# Altium footprint library APSS Prototype Parts.PcbLib: 96 footprints (part 5 of 6)
Each footprint in its own frame and in the unit in brackets; x right, y up, seen from the top. Pads: shape width x height; smd on the part's side, far side on the other; paste and mask are expansions set on the pad; w line width, h text height; cw(c..) or ccw(c..) is an arc to the next point about the centre after c.
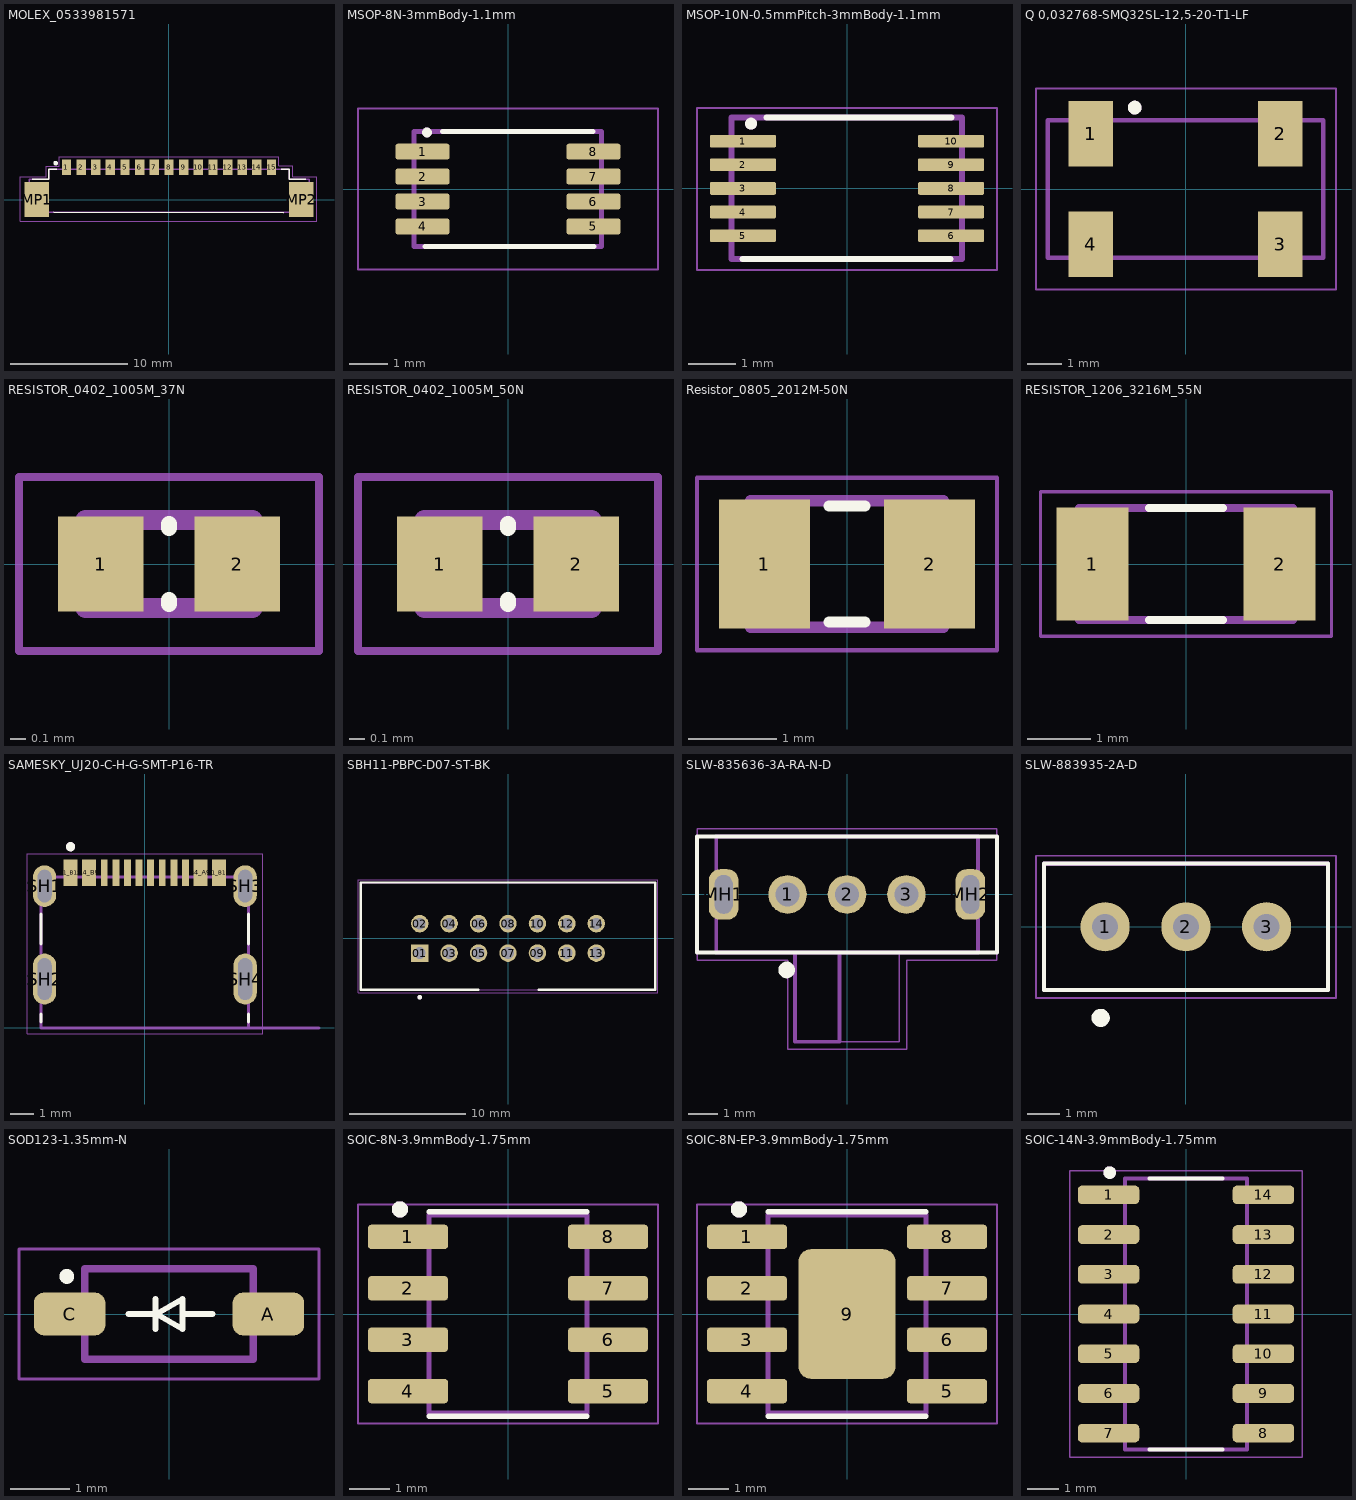
[diagram p4: the footprints below, top view; thin cyan lines are the x and y axes]

## MOLEX_0533981571 [mm] "Header - Picoblade 15-pin, SMT, STR, 4.7mm height"
height 4.7
pads (17):
  rect 0.8x1.3 smd mask+0.051: 1(-8.75,2.75) 2(-7.5,2.75) 3(-6.25,2.75) 4(-5,2.75) 5(-3.75,2.75) 6(-2.5,2.75) 7(-1.25,2.75) 8(0,2.75) 9(1.25,2.75) 10(2.5,2.75) 11(3.75,2.75) 12(5,2.75) 13(6.25,2.75) 14(7.5,2.75) 15(8.75,2.75)
  rect 2.1x3 smd mask+0.051: MP1(-11.3,0) MP2(11.3,0)
Top Overlay:
  circle w0.2: c-9.675,3.1 r0.1
  lines w0.127: -11.675,1.725 -10.25,1.725 -10.25,2.6 -9.575,2.6 ; -9.85,-1.1 9.8,-1.125 ; 9.575,2.6 10.25,2.6 10.25,1.725 11.675,1.725
Mechanical 13:
  lines w0.127: 9.615,2.6 10.25,2.6 ; 11.965,-1.075 11.965,1.725 10.25,1.725 10.25,2.6 ; 12.175,-1.075 -11.925,-1.075 -11.925,1.725 -10.25,1.725 -10.25,2.6 -9.475,2.6 10.25,2.6
Mechanical 15:
  lines w0.05: -12.675,-1.85 12.6,-1.85 12.6,1.95 10.55,1.95 10.55,2.9 9.375,2.9 9.375,3.65 -9.375,3.65 -9.375,2.85 -10.475,2.85 -10.475,1.95 -12.675,1.95 -12.675,-1.85
3D body "0533981571.stp": height 4.71, standoff 0.01, extent -11.95,-1.1 11.95,3.1

## MSOP-8N-3mmBody-1.1mm [mm] "MSOP, 8 pin, 0.65mm pitch, 3mm wide, nominal pads, 1.1mm high"
height 1.1
pads (8):
  rrect25% 1.4x0.41 smd mask+0.051: 1(-2.226,0.975) 2(-2.226,0.325) 3(-2.226,-0.325) 4(-2.226,-0.975) 5(2.225,-0.975) 6(2.225,-0.325) 7(2.225,0.325) 8(2.225,0.975)
Top Overlay:
  circle w0.2: c-2.108,1.473 r0.025
  lines w0.127: -2.165,-1.499 2.235,-1.499 ; -1.702,1.499 2.21,1.499
Mechanical 13:
  circle w0.2: c-2.108,1.473 r0.025
  lines w0.127: -2.45,-1.499 -2.45,1.5 2.438,1.5 2.438,-1.499 -2.45,-1.499
Mechanical 15:
  lines w0.05: -3.905,-2.098 -3.905,2.1 3.905,2.1 3.905,-2.098 -3.905,-2.098
3D body "NCS2333DMR2G.step": height 1.1, standoff 0, extent -2.45,-1.5 2.45,1.5

## MSOP-10N-0.5mmPitch-3mmBody-1.1mm [mm] "MSOP, 10 pin, 0.5mm pitch, 3mm wide, nominal pads, 1.1mm high"
height 1.1
pads (10):
  rrect25% 1.4x0.27 smd mask+0.051: 1(-2.204,1) 2(-2.204,0.5) 3(-2.204,0) 4(-2.204,-0.5) 5(-2.204,-1) 6(2.203,-1) 7(2.203,-0.5) 8(2.203,0) 9(2.203,0.5) 10(2.203,1)
Top Overlay:
  circle w0.2: c-2.032,1.372 r0.025
  lines w0.127: -2.21,-1.499 2.19,-1.499 ; -1.702,1.499 2.21,1.499
Mechanical 13:
  circle w0.2: c-2.032,1.372 r0.025
  lines w0.127: -2.45,-1.499 -2.45,1.5 2.438,1.5 2.438,-1.499 -2.45,-1.499
Mechanical 15:
  lines w0.05: -3.175,-1.727 -3.175,1.702 3.175,1.702 3.175,-1.727 -3.175,-1.727
3D body "MCP47CVB02-E_UN.stp": height 1.1, standoff 0, extent -2.45,-1.5 2.45,1.5

## Q 0,032768-SMQ32SL-12,5-20-T1-LF [mm]
height 2.4
pads (4):
  rect 1.3x1.9 smd: 1(-2.75,1.6) 2(2.75,1.6) 3(2.75,-1.6) 4(-2.75,-1.6)
Top Overlay:
  circle w0.2: c-1.473,2.362 r0.1
Mechanical 13:
  circle w0.2: c-1.473,2.362 r0.1
  lines w0.127: -4,-2 -4,2 4,2 4,-2 -4,-2
Mechanical 15:
  lines w0.05: -4.339,-2.917 -4.339,2.917 4.365,2.917 4.365,-2.917 -4.339,-2.917
3D body: height 2.4, standoff 0, extent -4,-2 4,2

## RESISTOR_0402_1005M_37N [mm] "Resistor, 0402 (1005 metric), 0.37mm height, nominal pads"
height 0.37
pads (2):
  rect 0.54x0.6 smd mask+0.051: 1(-0.432,0) 2(0.432,0)
Top Overlay:
  lines w0.1: 0,-0.254 0,-0.229 ; 0,0.229 0,0.254
Mechanical 13:
  lines w0.127: -0.53,-0.28 0.53,-0.28 0.53,0.28 -0.53,0.28 -0.53,-0.28
Mechanical 15:
  lines w0.05: -0.95,-0.55 0.95,-0.55 0.95,0.55 -0.95,0.55 -0.95,-0.55
3D body "RE0402BRE07560KL.step": height 0.37, standoff 0, extent -0.5,-0.25 0.5,0.25

## RESISTOR_0402_1005M_50N [mm] "Resistor, 0402 (1005 metric), 0.5mm height, nominal pads"
height 0.5
pads (2):
  rect 0.54x0.6 smd mask+0.051: 1(-0.432,0) 2(0.432,0)
Top Overlay:
  lines w0.1: 0,-0.254 0,-0.229 ; 0,0.229 0,0.254
Mechanical 13:
  lines w0.127: -0.53,-0.28 -0.53,0.28 0.53,0.28 0.53,-0.28 -0.53,-0.28
Mechanical 15:
  lines w0.05: -0.95,-0.55 -0.95,0.55 0.95,0.55 0.95,-0.55 -0.95,-0.55
3D body "NCP15XH103F03RC.step": height 0.48, standoff -0.02, extent -0.475,-0.279 0.525,0.271

## Resistor_0805_2012M-50N [mm] "Resistor, 0805 (2012 metric), nominal pads"
height 0.5
pads (2):
  rect 1.04x1.47 smd mask+0.051: 1(-0.94,0) 2(0.94,0)
Top Overlay:
  lines w0.127: -0.203,-0.66 0.203,-0.66 ; -0.203,0.66 0.203,0.66
Mechanical 13:
  lines w0.127: -1.1,-0.72 -1.1,0.72 1.1,0.72 1.1,-0.72 -1.1,-0.72
Mechanical 15:
  lines w0.05: -1.708,-0.983 -1.708,0.983 1.708,0.983 1.708,-0.983 -1.708,-0.983
3D body "RG2012P-103-D-T5.step": height 0.5, standoff 0, extent -1,-0.625 1,0.625

## RESISTOR_1206_3216M_55N [mm]
height 0.55
pads (2):
  rect 1.13x1.77 smd mask+0.051: 1(-1.47,0) 2(1.47,0)
Top Overlay:
  lines w0.127: -0.58,-0.88 0.58,-0.88 ; -0.58,0.88 0.58,0.88
Mechanical 13:
  lines w0.127: -1.68,-0.88 1.68,-0.88 1.68,0.88 -1.68,0.88 -1.68,-0.88
Mechanical 15:
  lines w0.05: -2.285,-1.135 2.285,-1.135 2.285,1.135 -2.285,1.135 -2.285,-1.135
3D body "TNPW120610K0BETA.STEP": height 0.65, standoff 0, extent -1.6,-0.8 1.6,0.8

## SAMESKY_UJ20-C-H-G-SMT-P16-TR [mm]
height 3.36
pads (16):
  rect 0.595x1.15 smd mask+0.051: A1_B12(-3.2,6.675) A1_B12(3.2,6.675) A4_B9(-2.4,6.675) B4_A9(2.4,6.675)
  rect 0.295x1.15 smd mask+0.051: A5(-1.75,6.675) A6(-0.75,6.675) A7(0.75,6.675) A8(1.75,6.675) B5(1.25,6.675) B6(0.25,6.675) B7(-0.25,6.675) B8(-1.25,6.675)
  oval 1x1.8 hole 0.6 slot 1.4 at 90 deg: SH1(-4.32,6.1) SH3(4.32,6.1)
  oval 1x2.2 hole 0.6 slot 1.8 at 90 deg: SH2(-4.32,2.1) SH4(4.32,2.1)
Top Overlay:
  circle w0.2: c-3.2,7.8 r0.1
  lines w0.127: -4.47,0.254 -4.47,0.6 ; -4.47,3.6 -4.47,4.9 ; 4.47,0.254 4.47,0.6 ; 4.47,3.6 4.47,4.9
Mechanical 13:
  circle w0.2: c-3.2,7.8 r0.1
  lines w0.127: 7.5,0 4.47,0 ; 4.47,0 -4.47,0 -4.47,6.5 4.47,6.5 4.47,0
  text "PCB EDGE" at 5.2,0.2 h1
Mechanical 15:
  lines w0.05: -5.07,-0.25 -5.07,7.5 5.07,7.5 5.07,-0.25 -5.07,-0.25
3D body "step_temp.STEP": height 3.31, standoff -1.1, extent -4.47,-0.695 4.47,7.015
3D body: height 0, standoff -1.6, extent -4.492,5.529 -4.179,6.672
3D body: height 0, standoff -1.6, extent 4.179,5.529 4.492,6.672
3D body: height 0, standoff -1.6, extent 4.162,1.541 4.474,2.726
3D body: height 0, standoff -1.6, extent -4.474,1.541 -4.162,2.726

## SBH11-PBPC-D07-ST-BK [mm]
pads (14):
  rect 1.508x1.508 hole 1.02: 01(-7.62,-1.27)
  round 1.508 hole 1.02: 02(-7.62,1.27) 03(-5.08,-1.27) 04(-5.08,1.27) 05(-2.54,-1.27) 06(-2.54,1.27) 07(0,-1.27) 08(0,1.27) 09(2.54,-1.27) 10(2.54,1.27) 11(5.08,-1.27) 12(5.08,1.27) 13(7.62,-1.27) 14(7.62,1.27)
Top Overlay:
  circle w0.2: c-7.62,-5.08 r0.1
  lines w0.2: -2.54,-4.445 -12.7,-4.445 -12.7,4.825 12.7,4.825 12.7,-4.445 2.667,-4.445
Mechanical 13:
  circle w0.2: c-7.62,-5.08 r0.1
  lines w0.1: -12.7,-4.445 12.7,-4.445 12.7,4.825 -12.7,4.825 -12.7,-4.445
Mechanical 15:
  lines w0.05: -12.95,-4.695 12.95,-4.695 12.95,5.075 -12.95,5.075 -12.95,-4.695
3D body "HTST-107-02-S-D.stp": height 8.89, standoff -4.57, extent -12.7,-4.445 12.7,4.826

## SLW-835636-3A-RA-N-D [mm]
pads (5):
  round 1.3 hole 0.8: 1(-2,0) 2(0,0) 3(2,0)
  rrect75% 1x1.7 hole 0.6 slot 1.3 at 90 deg: MH1(-4.15,0) MH2(4.15,0)
Top Overlay:
  circle w0.279: c-2.032,-2.54 r0.141
  lines w0.127: -5.048,-1.954 -5.048,1.954 5.048,1.954 5.048,-1.954 -5.048,-1.954
Mechanical 13:
  lines w0.05: -0.25,-4.954 1.75,-4.954 ; 1.75,-2.954 1.75,-4.954 ; 1.75,-1.956 1.75,-4.954 ; -0.4,-0.151 -0.4,0.149 0.4,0.15 0.4,-0.151 -0.4,-0.151 ; 4.001,-0.4 4.301,-0.4 4.301,0.4 4.001,0.4 4,-0.4
  lines w0.127: -1.75,-1.956 -1.75,-4.954 -0.25,-4.954 -0.25,-1.956 ; -4.399,-1.954 4.406,-1.954 4.406,1.951 -4.399,1.951 -4.399,-1.954
Mechanical 15:
  lines w0.05: -5.04,-2.21 -2.003,-2.21 -2.003,-5.203 2.003,-5.203 2.003,-2.21 ; -5.04,-2.207 -5.04,2.204 5.048,2.204 5.048,-2.207 2.005,-2.207
3D body: height 3.6, standoff 0, extent -4.399,-1.954 4.371,1.986
3D body: height 2, standoff -2, extent -4.3,-0.4 -4,0.4
3D body: height 2, standoff -2, extent 4.001,-0.4 4.301,0.4
3D body: height 2, standoff -2.2, extent -2.25,-0.151 -1.75,0.149
3D body: height 2, standoff -2.2, extent 1.75,-0.151 2.25,0.149
3D body: height 2, standoff -2.2, extent -0.25,-0.151 0.25,0.149
3D body: height 2, standoff 0.5, extent -1.763,-4.969 -0.247,1.953

## SLW-883935-2A-D [mil]
pads (3):
  round 60 hole 31.5: 1(-98.43,0) 2(0,0) 3(98.43,0)
Top Overlay:
  circle w11: c-103.85,-111.06 r5.57
  lines w5: -173.17,-76.93 173.15,-76.93 173.15,76.94 -173.17,76.94 -173.17,-76.93
Mechanical 13:
  lines w5: -173.17,76.61 -173.17,-76.93 173.29,-76.93 ; -173.17,76.8 173.29,76.8 ; 173.48,-76.93 173.48,76.61
Mechanical 15:
  lines w1.97: -182.69,-86.91 183,-86.91 183,86.78 -182.69,86.78 -182.69,-86.91
3D body: height 216.54, standoff 0, extent -68.9,-29.53 -9.84,29.53
3D body: height 137.8, standoff 0, extent -173.45,-76.57 173.19,76.97
3D body: height 78.74, standoff -86.61, extent -9.84,-5.93 9.84,5.89
3D body: height 78.74, standoff -86.61, extent 88.58,-5.93 108.27,5.89
3D body: height 78.74, standoff -86.61, extent -108.27,-5.93 -88.58,5.89

## SOD123-1.35mm-N [mm] "SOD-123, 1.35mm high, nominal pads"
height 1.35
pads (2):
  rrect50% 1.21x0.73 smd mask+0.051: A(1.68,0) C(-1.68,0)
Top Overlay:
  circle w0.2: c-1.727,0.635 r0.025
  lines w0.1: -0.686,0 -0.178,0 ; -0.229,-0.254 -0.229,0.254 ; 0.229,0 0.737,0 ; -0.211,0 0.229,0.254 0.229,-0.254 -0.211,0
Mechanical 13:
  lines w0.127: -1.425,-0.762 1.425,-0.762 1.425,0.762 -1.425,0.762 -1.425,-0.762
Mechanical 15:
  lines w0.05: -2.535,-1.1 2.535,-1.1 2.535,1.1 -2.535,1.1 -2.535,-1.1
3D body "step_temp.STEP": height 1.5, standoff -0.03, extent -1.825,-0.775 1.825,0.775

## SOIC-8N-3.9mmBody-1.75mm [mm] "8-SOIC, 8 pins, 3.9mm body width, nominal pads, 1.75mm high"
height 1.75
pads (8):
  rrect25% 1.97x0.6 smd: 1(-2.47,1.905) 2(-2.47,0.635) 3(-2.47,-0.635) 4(-2.47,-1.905) 5(2.47,-1.905) 6(2.47,-0.635) 7(2.47,0.635) 8(2.47,1.905)
Top Overlay:
  circle w0.2: c-2.668,2.584 r0.1
  lines w0.127: -1.95,-2.525 1.95,-2.525 ; -1.95,2.525 1.95,2.525
Mechanical 13:
  circle w0.2: c-2.668,2.584 r0.1
  lines w0.127: -1.95,-2.452 -1.95,2.452 1.95,2.452 1.95,-2.452 -1.95,-2.452
Mechanical 15:
  lines w0.05: -3.705,-2.702 -3.705,2.702 3.705,2.702 3.705,-2.702 -3.705,-2.702
3D body "TLC555CDR.step": height 1.75, standoff 0, extent -3,-2.45 3,2.45

## SOIC-8N-EP-3.9mmBody-1.75mm [mm] "8-SOIC, 8 pins and exposed pad, 3.9mm body width, nominal pads, 1.75mm high"
height 1.75
pads (9):
  rrect25% 1.97x0.6 smd mask+0.051: 1(-2.47,1.905) 2(-2.47,0.635) 3(-2.47,-0.635) 4(-2.47,-1.905) 5(2.47,-1.905) 6(2.47,-0.635) 7(2.47,0.635) 8(2.47,1.905)
  rrect25% 2.4x3.2 smd mask+0.051: 9(0,0)
Top Overlay:
  circle w0.2: c-2.668,2.584 r0.1
  lines w0.127: -1.95,-2.525 1.95,-2.525 ; -1.95,2.525 1.95,2.525
Mechanical 13:
  circle w0.2: c-2.668,2.584 r0.1
  lines w0.127: -1.95,-2.452 1.95,-2.452 1.95,2.452 -1.95,2.452 -1.95,-2.452
Mechanical 15:
  lines w0.05: -3.705,-2.702 3.705,-2.702 3.705,2.702 -3.705,2.702 -3.705,-2.702
3D body "TLC555CDR.step": height 1.75, standoff 0, extent -3,-2.45 3,2.45

## SOIC-14N-3.9mmBody-1.75mm [mm] "14-SOIC, 3.9mm body width, nominal pads, 1.75mm high"
height 1.75
pads (14):
  rrect50% 1.97x0.6 smd: 1(-2.475,3.81) 2(-2.475,2.54) 3(-2.475,1.27) 4(-2.475,0) 5(-2.475,-1.27) 6(-2.475,-2.54) 7(-2.475,-3.81) 8(2.475,-3.81) 9(2.475,-2.54) 10(2.475,-1.27) 11(2.475,0) 12(2.475,1.27) 13(2.475,2.54) 14(2.475,3.81)
Top Overlay:
  circle w0.2: c-2.438,4.521 r0.1
  lines w0.127: -1.17,-4.325 1.17,-4.325 ; -1.17,4.325 1.17,4.325
Mechanical 13:
  circle w0.2: c-2.438,4.521 r0.1
  lines w0.127: -1.95,-4.325 1.95,-4.325 1.95,4.325 -1.95,4.325 -1.95,-4.325
Mechanical 15:
  lines w0.05: -3.71,-4.575 3.71,-4.575 3.71,4.575 -3.71,4.575 -3.71,-4.575
3D body "TLC556CDR.step": height 1.75, standoff 0, extent -3,-4.325 3,4.325